# Altium footprint library Led.PcbLib: 80 footprints (part 1 of 5)
Each footprint in its own frame and in the unit in brackets; x right, y up, seen from the top. Pads: shape width x height; smd on the part's side, far side on the other; paste and mask are expansions set on the pad; w line width, h text height; cw(c..) or ccw(c..) is an arc to the next point about the centre after c.
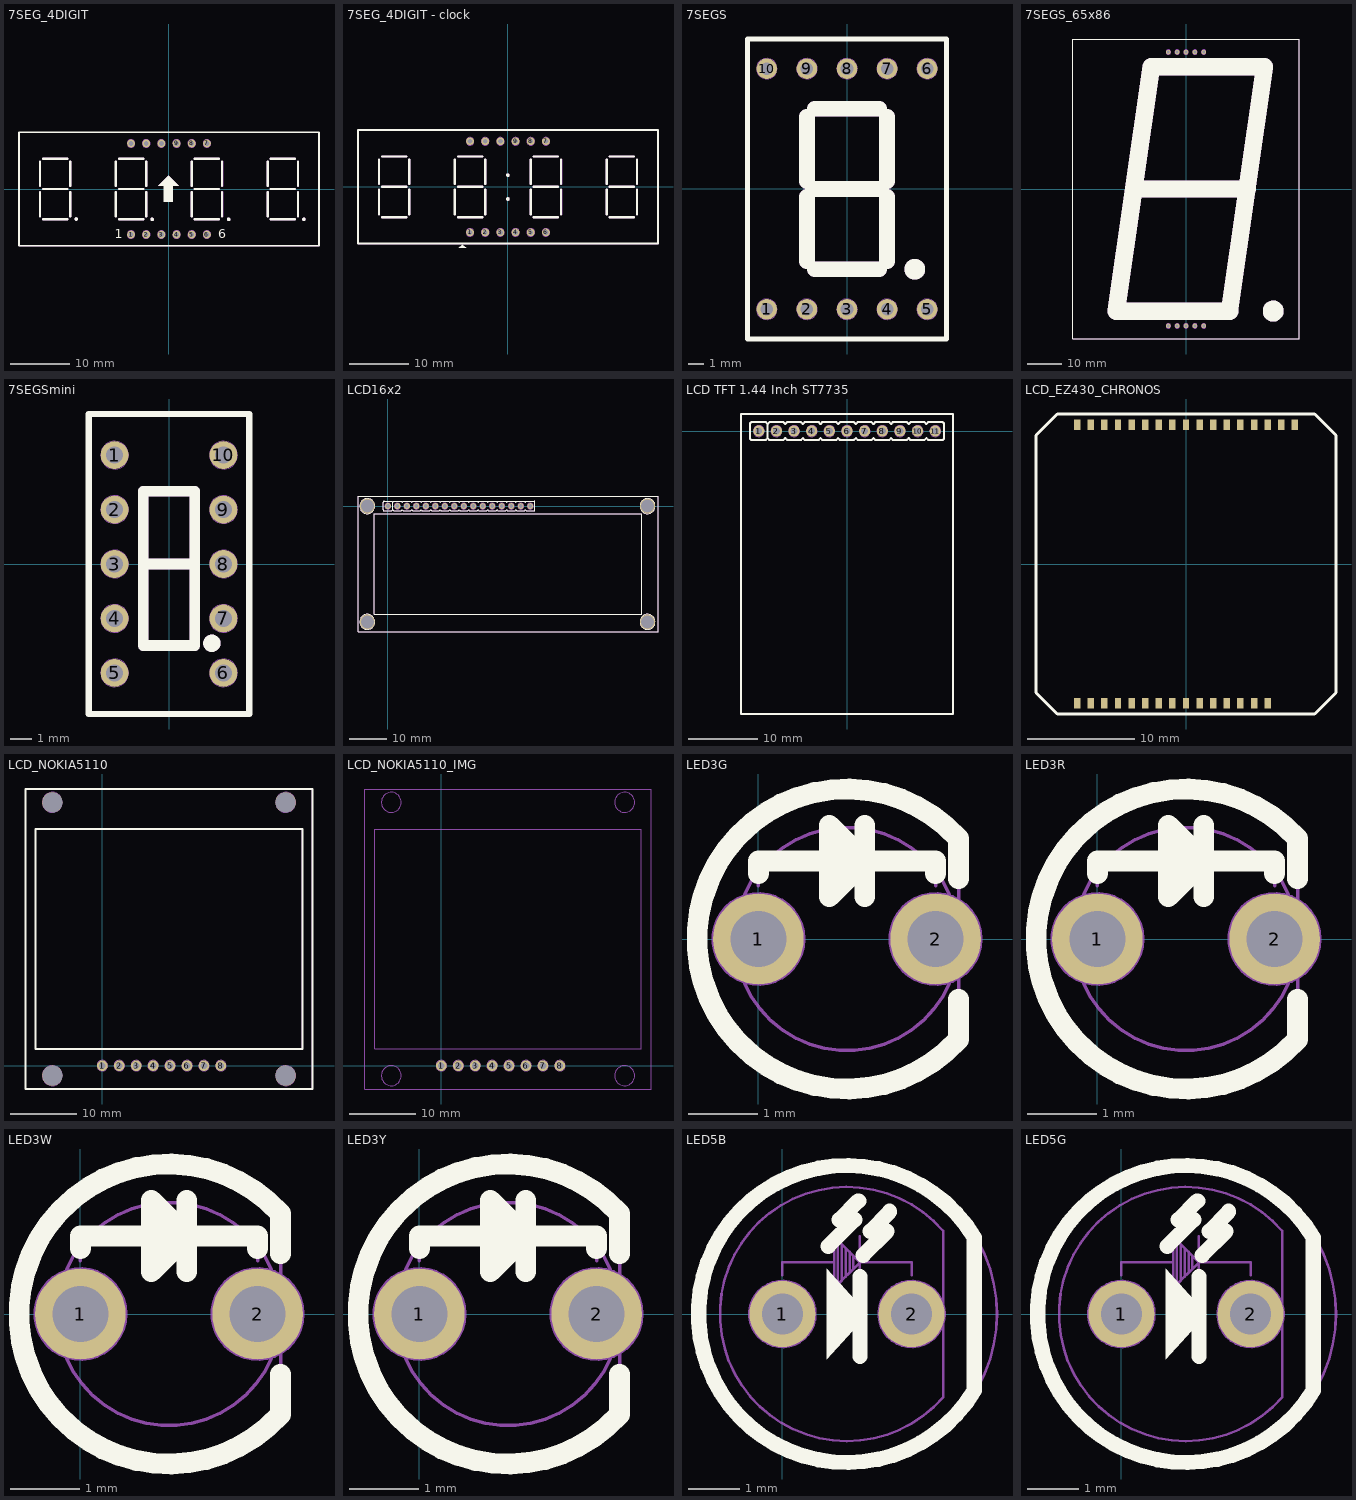
[diagram p0: the footprints below, top view; thin cyan lines are the x and y axes]

## 7SEG_4DIGIT [mm] "DIP 12 Leads; Body 50.2 x 19 mm; Pitch 2.54mm"
height 8
pads (12):
  round 1.3 hole 0.8: 1(-6.35,-7.62) 2(-3.81,-7.62) 3(-1.27,-7.62) 4(1.27,-7.62) 5(3.81,-7.62) 6(6.35,-7.62) 7(6.35,7.62) 8(3.81,7.62) 9(1.27,7.62) 10(-1.27,7.62) 11(-3.81,7.62) 12(-6.35,7.62)
Top Overlay:
  drawing of 153 lines, arcs and shapes, not listed
  text "6" at 8.255,-8.28 h1.52
  text "1" at -9.093,-8.23 h1.52
Mechanical 1:
  drawing of 165 lines, arcs and shapes, not listed
  text "6" at 8.26,-8.28 h1.2
  text "1" at -9.088,-8.229 h1.2
  text "7" at 7.874,7.061 h1.2
  text "12" at -9.627,6.985 h1.2
3D body "SOCKET6.stp": height 7.02, standoff -2.98, extent -7.62,6.35 7.62,8.89
3D body "SOCKET6.stp": height 7.02, standoff -2.98, extent -7.62,-8.763 7.62,-6.223
3D body "User Library-C-564 (7 segment 4 digit LED display).step": height 8, standoff -6.2, extent -25.2,-9.5 25.2,9.5

## 7SEG_4DIGIT - clock [mm] "DIP 12 Leads; Body 50.4 x 19 mm; Pitch 2.54mm TOF-5462BS-1N"
height 8
pads (12):
  round 1.3 hole 0.8: 1(-6.35,-7.62) 2(-3.81,-7.62) 3(-1.27,-7.62) 4(1.27,-7.62) 5(3.81,-7.62) 6(6.35,-7.62) 7(6.35,7.62) 8(3.81,7.62) 9(1.27,7.62) 10(-1.27,7.62) 11(-3.81,7.62) 12(-6.35,7.62)
Top Overlay:
  drawing of 151 lines, arcs and shapes, not listed
Mechanical 1:
  drawing of 162 lines, arcs and shapes, not listed
  text "6" at 7.5,-8 h1.2
  text "1" at -8,-8 h1.2
  text "7" at 7.5,7 h1.2
  text "12" at -9.5,7 h1.2
3D body "end-el-san Co Ltd-King Bright CA56-12.step": height 8, standoff -4.1, extent -25.15,-9.5 25.15,9.5

## 7SEGS [mm] "DIP 10 Leads; Body 12 x 19 mm; Pitch 2.54mm"
height 9
pads (10):
  round 1.3 hole 0.8: 1(-5.08,-7.62) 2(-2.54,-7.62) 3(0,-7.62) 4(2.54,-7.62) 5(5.08,-7.62) 6(5.08,7.62) 7(2.54,7.62) 8(0,7.62) 9(-2.54,7.62) 10(-5.08,7.62)
Top Overlay:
  circle w1: c4.293,-5.08 r0.152
  lines w0.3: -6.3,-9.5 6.3,-9.5 6.3,9.5 -6.3,9.5 -6.3,-9.5
  lines w0.381: -2.54,-4.572 -2.54,-0.508 ; -2.54,-4.572 -2.54,-0.508 ; -2.54,-4.572 -2.54,-0.508 ; -2.54,-4.572 -2.54,-0.508 ; -2.54,0.508 -2.54,4.572 ; -2.54,0.508 -2.54,4.572 ; -2.54,0.508 -2.54,4.572 ; -2.54,0.508 -2.54,4.572 ; -2.032,0 2.032,0 ; -2.032,0 2.032,0 ; -2.032,0 2.032,0 ; -2.032,0 2.032,0 ; 2.54,-4.572 2.54,-0.508 ; 2.54,-4.572 2.54,-0.508 ; 2.54,-4.572 2.54,-0.508 ; 2.54,-4.572 2.54,-0.508 ; 2.54,-4.572 2.54,-0.508 ; 2.54,-4.572 2.54,-0.508 ; 2.54,0.508 2.54,4.572 ; 2.54,0.508 2.54,4.572 ; 2.54,0.508 2.54,4.572 ; 2.54,0.508 2.54,4.572 ; -2.032,-5.08 2.032,-5.08 -2.032,-5.08 ; -2.032,5.08 2.032,5.08 -2.032,5.08
  lines w1: -2.54,-4.572 -2.54,-0.508 ; -2.54,-4.572 -2.54,-0.508 ; -2.54,-4.572 -2.54,-0.508 ; -2.54,-4.572 -2.54,-0.508 ; -2.54,0.508 -2.54,4.572 ; -2.54,0.508 -2.54,4.572 ; -2.54,0.508 -2.54,4.572 ; -2.54,0.508 -2.54,4.572 ; -2.032,0 2.032,0 ; -2.032,0 2.032,0 ; -2.032,0 2.032,0 ; -2.032,0 2.032,0 ; 2.54,0.508 2.54,4.572 ; 2.54,0.508 2.54,4.572 ; 2.54,0.508 2.54,4.572 ; 2.54,0.508 2.54,4.572 ; -2.032,-5.08 2.032,-5.08 -2.032,-5.08 ; -2.032,5.08 2.032,5.08 -2.032,5.08 ; 2.54,-4.572 2.54,-0.508 2.54,-4.572
Mechanical 1:
  circle w0.05: c-5.08,-7.62 r0.65
  circle w0.05: c-2.54,-7.62 r0.65
  circle w0.05: c0,-7.62 r0.65
  circle w0.05: c2.54,-7.62 r0.65
  circle w0.05: c5.08,-7.62 r0.65
  circle w0.05: c5.08,7.62 r0.65
  circle w0.05: c2.54,7.62 r0.65
  circle w0.05: c0,7.62 r0.65
  circle w0.05: c-2.54,7.62 r0.65
  circle w0.05: c-5.08,7.62 r0.65
  circle w1: c4.292,-5.08 r0.152
  lines w0.05: -6.3,-9.5 -6.3,9.5 6.3,9.5 6.3,-9.5 -6.3,-9.5
  lines w0.381: -2.54,-4.572 -2.54,-0.508 ; -2.54,-4.572 -2.54,-0.508 ; -2.54,-4.572 -2.54,-0.508 ; -2.54,-4.572 -2.54,-0.508 ; -2.54,0.508 -2.54,4.572 ; -2.54,0.508 -2.54,4.572 ; -2.54,0.508 -2.54,4.572 ; -2.54,0.508 -2.54,4.572 ; -2.032,0 2.032,0 ; -2.032,0 2.032,0 ; -2.032,0 2.032,0 ; -2.032,0 2.032,0 ; 2.54,-4.572 2.54,-0.508 ; 2.54,-4.572 2.54,-0.508 ; 2.54,-4.572 2.54,-0.508 ; 2.54,-4.572 2.54,-0.508 ; 2.54,-4.572 2.54,-0.508 ; 2.54,-4.572 2.54,-0.508 ; 2.54,0.508 2.54,4.572 ; 2.54,0.508 2.54,4.572 ; 2.54,0.508 2.54,4.572 ; 2.54,0.508 2.54,4.572 ; -2.032,-5.08 2.032,-5.08 -2.032,-5.08 ; -2.032,5.08 2.032,5.08 -2.032,5.08
  lines w1: -2.54,-4.572 -2.54,-0.508 ; -2.54,-4.572 -2.54,-0.508 ; -2.54,-4.572 -2.54,-0.508 ; -2.54,-4.572 -2.54,-0.508 ; -2.54,0.508 -2.54,4.572 ; -2.54,0.508 -2.54,4.572 ; -2.54,0.508 -2.54,4.572 ; -2.54,0.508 -2.54,4.572 ; -2.032,0 2.032,0 ; -2.032,0 2.032,0 ; -2.032,0 2.032,0 ; -2.032,0 2.032,0 ; 2.54,0.508 2.54,4.572 ; 2.54,0.508 2.54,4.572 ; 2.54,0.508 2.54,4.572 ; 2.54,0.508 2.54,4.572 ; -2.032,-5.08 2.032,-5.08 -2.032,-5.08 ; -2.032,5.08 2.032,5.08 -2.032,5.08 ; 2.54,-4.572 2.54,-0.508 2.54,-4.572
  text "10" at -5.74,5.7 h1
  text "6" at 4.93,5.77 h1
  text "5" at 4.77,-6.77 h1
  text "1" at -5.29,-6.67 h1
3D body "SW3dPS-Disp_SA56-11.STEP": height 8.03, standoff -3.97, extent -6.35,-9.525 6.35,9.525

## 7SEGS_65x86 [mm] "DIP 10 Leads; Body 65x86x12 mm; Pitch 2.54mm"
height 12
pads (10):
  round 1.3 hole 0.8: 1(-5.08,-39.25) 2(-2.54,-39.25) 3(0,-39.25) 4(2.54,-39.25) 5(5.08,-39.25) 6(5.08,39.25) 7(2.54,39.25) 8(0,39.25) 9(-2.54,39.25) 10(-5.08,39.25)
Top Overlay:
  circle w3: c25,-35 r1.5
  lines w0.3: -32.5,-43 -32.5,43 32.5,43 32.5,-43 -32.5,-43
  lines w5: -15,0 -20,-35 12.5,-35 17.5,0 ; -15,0 -10,35 22.5,35 17.5,0 ; -15,0 17.5,0
Mechanical 1:
  circle w3: c25,-35 r1.5
  circle w0.05: c-5.08,39.25 r0.65
  circle w0.05: c-2.54,39.25 r0.65
  circle w0.05: c0,39.25 r0.65
  circle w0.05: c2.54,39.25 r0.65
  circle w0.05: c5.08,39.25 r0.65
  circle w0.05: c5.08,-39.25 r0.65
  circle w0.05: c2.54,-39.25 r0.65
  circle w0.05: c0,-39.25 r0.65
  circle w0.05: c-2.54,-39.25 r0.65
  circle w0.05: c-5.08,-39.25 r0.65
  lines w0.05: -32.5,-43 32.5,-43 ; -32.5,-43 -32.5,43 ; -32.5,-43 -32.5,43 ; -32.5,-43 32.5,-43 ; -32.5,43 32.5,43 ; -32.5,43 32.5,43 ; 32.5,-43 32.5,43 ; 32.5,-43 32.5,43
  lines w5: -15,0 -10,35 22.5,35 17.5,0 ; -15,0 -20,-35 12.5,-35 17.5,0 ; -15,0 17.5,0
  text "1" at -5.4,-42.4 h2
  text "5" at 4.5,-42.4 h2
  text "6" at 4.4,40.4 h2
  text "10" at -6.5,40.5 h2

## 7SEGSmini [mm] "body 7.5x14mm pitch 2.54"
height 8.5
pads (10):
  round 1.3 hole 0.8: 1(-2.54,5.08) 2(-2.54,2.54) 3(-2.54,0) 4(-2.54,-2.54) 5(-2.54,-5.08) 6(2.54,-5.08) 7(2.54,-2.54) 8(2.54,0) 9(2.54,2.54) 10(2.54,5.08)
Top Overlay:
  circle w0.5: c2,-3.7 r0.152
  lines w0.3: -3.75,-7 -3.75,7 3.75,7 3.75,-7 -3.75,-7
  lines w0.5: -1.2,0 1.2,0 ; -1.2,-3.8 1.2,-3.8 1.2,3.4 -1.2,3.4 -1.2,-3.8
Mechanical 1:
  circle w0.05: c2.54,5.08 r0.65
  circle w0.05: c2.54,2.54 r0.65
  circle w0.05: c2.54,0 r0.65
  circle w0.05: c2.54,-2.54 r0.65
  circle w0.05: c2.54,-5.08 r0.65
  circle w0.05: c-2.54,-5.08 r0.65
  circle w0.05: c-2.54,-2.54 r0.65
  circle w0.05: c-2.54,0 r0.65
  circle w0.05: c-2.54,2.54 r0.65
  circle w0.05: c-2.54,5.08 r0.65
  circle w0.5: c2,-3.7 r0.152
  lines w0.05: -3.75,-7 -3.75,7 3.75,7 3.75,-7 -3.75,-7
  lines w0.5: -1.2,0 1.2,0 ; -1.2,-3.8 -1.2,3.4 1.2,3.4 1.2,-3.8 -1.2,-3.8
  text "6" at 2.3,-5.4 h0.7
  text "5" at -2.8,-5.4 h0.7
  text "1" at -2.7,4.7 h0.7
  text "10" at 2,4.7 h0.7

## LCD16x2 [mm] "LCD 16x2, 36.3mmx80.3mm"
height 13
pads (20):
  round 1.6 hole 1 mask+0.1: 1(0,0) 2(2.54,0) 3(5.08,0) 4(7.62,0) 5(10.16,0) 6(12.7,0) 7(15.24,0) 8(17.78,0) 9(20.32,0) 10(22.86,0) 11(25.4,0) 12(27.94,0) 13(30.48,0) 14(33.02,0) 15(35.56,0) 16(38.1,0)
  round 4 hole 3.5: Hole_0(-5.5,0) Hole_1(-5.5,-31) Hole_3(69.5,-31) Hole_4(69.5,0)
Top Overlay:
  drawing of 154 lines, arcs and shapes, not listed
Mechanical 2:
  drawing of 190 lines, arcs and shapes, not listed
  text "16" at 37.55,-0.4 h1.2
  text "1" at -0.15,-0.4 h1.2
3D body "LCD module 16 X 2 backlight.STEP": height 13.52, standoff 0.31, extent -8.25,-33.75 72.25,2.75
3D body "Header 1x16.STEP": height 4.5, standoff -7.1, extent -1.27,-1.27 39.37,1.27

## LCD TFT 1.44 Inch ST7735 [mm] "Màn hình LCD TFT 1.44 inch ST7735 giao ti?p SPI"
pads (11):
  round 1.6 hole 1 mask+0.1: 1(-12.7,0) 2(-10.16,0) 3(-7.62,0) 4(-5.08,0) 5(-2.54,0) 6(0,0) 7(2.54,0) 8(5.08,0) 9(7.62,0) 10(10.16,0) 11(12.7,0)
Top Overlay:
  lines w0.3: -11.684,-1.28 -11.684,-1.27 ; -11.684,1.27 -11.43,1.016 ; -11.684,1.28 -13.73,1.28 ccw(c-13.71,1.02) -13.97,1 -13.97,-1 ccw(c-13.71,-1.02) -13.73,-1.28 -11.694,-1.28 -11.684,-1.27 ; -11.176,1.27 -11.43,1.016 ; -11.176,1.28 -9.144,1.28 -9.144,1.27 -8.89,1.016 -8.636,1.27 ; -8.65,-1.28 -6.614,-1.28 -6.604,-1.27 ; -8.65,1.28 -6.604,1.28 ; -8.636,-1.27 -8.89,-1.016 -9.144,-1.27 -9.144,-1.28 -11.176,-1.28 -11.43,-1.026 -11.43,-1.016 ; -6.604,-1.28 -6.604,-1.27 ; -6.604,1.27 -6.35,1.016 -6.096,1.27 ; -6.096,1.28 -4.064,1.28 -4.064,1.27 -3.81,1.016 -3.556,1.27 ; -3.57,-1.28 -1.534,-1.28 -1.524,-1.27 ; -3.57,1.28 -1.524,1.28 ; -3.556,-1.27 -3.81,-1.016 -4.064,-1.27 -4.064,-1.28 -6.096,-1.28 -6.35,-1.026 -6.35,-1.016 -6.604,-1.27 ; -1.524,-1.28 -1.524,-1.27 ; -1.524,1.27 -1.27,1.016 -1.016,1.27 ; -1.016,1.28 1.016,1.28 1.016,1.27 1.27,1.016 1.524,1.27 ; 1.51,-1.28 3.546,-1.28 3.556,-1.27 ; 1.51,1.28 3.556,1.28 ; 1.524,-1.27 1.27,-1.016 1.016,-1.27 1.016,-1.28 -1.016,-1.28 -1.27,-1.026 -1.27,-1.016 -1.524,-1.27 ; 3.556,-1.28 3.556,-1.27 ; 3.556,1.27 3.81,1.016 4.064,1.27 ; 4.064,1.28 6.096,1.28 6.096,1.27 6.35,1.016 6.604,1.27 ; 6.59,-1.28 8.626,-1.28 8.636,-1.27 ; 6.59,1.28 8.636,1.28 ; 6.604,-1.27 6.35,-1.016 6.096,-1.27 6.096,-1.28 4.064,-1.28 3.81,-1.026 3.81,-1.016 3.556,-1.27 ; 8.636,-1.28 8.636,-1.27 ; 8.636,1.27 8.89,1.016 9.144,1.27 ; 9.144,1.28 11.176,1.28 11.176,1.27 11.43,1.016 11.684,1.27 ; 11.67,-1.28 13.706,-1.28 ; 11.67,1.28 13.716,1.28 ; 11.684,-1.27 11.43,-1.016 11.176,-1.27 11.176,-1.28 9.144,-1.28 8.89,-1.026 8.89,-1.016 8.636,-1.27 ; 13.73,-1.28 ccw(c13.71,-1.02) 13.97,-1 13.97,1 ccw(c13.71,1.02) 13.73,1.28 ; -11.684,-1.27 -11.43,-1.016 ; -11.43,-1.016 -11.43,1.016 ; -15.24,-40.72 15.24,-40.72 15.24,2.46 -15.24,2.46 -15.24,-40.72
Mechanical 2:
  circle w0.05: c5.08,0 r0.8
  circle w0.05: c12.7,0 r0.8
  circle w0.05: c-2.54,0 r0.8
  circle w0.05: c0,0 r0.8
  circle w0.05: c-10.16,0 r0.8
  circle w0.05: c-5.08,0 r0.8
  circle w0.05: c-12.7,0 r0.8
  circle w0.05: c-12.7,0 r0.8
  circle w0.05: c2.54,0 r0.8
  circle w0.05: c-7.62,0 r0.8
  circle w0.05: c7.62,0 r0.8
  circle w0.05: c10.16,0 r0.8
  lines w0.05: -11.684,-1.28 -11.684,-1.27 ; -11.684,1.27 -11.43,1.016 ; -11.684,1.28 -13.73,1.28 ccw(c-13.71,1.02) -13.97,1 -13.97,-1 ccw(c-13.71,-1.02) -13.73,-1.28 -11.694,-1.28 -11.684,-1.27 ; -11.176,1.27 -11.43,1.016 ; -11.176,1.28 -9.144,1.28 -9.144,1.27 -8.89,1.016 -8.636,1.27 ; -8.65,-1.28 -6.614,-1.28 -6.604,-1.27 ; -8.65,1.28 -6.604,1.28 ; -8.636,-1.27 -8.89,-1.016 -9.144,-1.27 -9.144,-1.28 -11.176,-1.28 -11.43,-1.026 -11.43,-1.016 ; -6.604,-1.28 -6.604,-1.27 ; -6.604,1.27 -6.35,1.016 -6.096,1.27 ; -6.096,1.28 -4.064,1.28 -4.064,1.27 -3.81,1.016 -3.556,1.27 ; -3.57,-1.28 -1.534,-1.28 -1.524,-1.27 ; -3.57,1.28 -1.524,1.28 ; -3.556,-1.27 -3.81,-1.016 -4.064,-1.27 -4.064,-1.28 -6.096,-1.28 -6.35,-1.026 -6.35,-1.016 -6.604,-1.27 ; -1.524,-1.28 -1.524,-1.27 ; -1.524,1.27 -1.27,1.016 -1.016,1.27 ; -1.016,1.28 1.016,1.28 1.016,1.27 1.27,1.016 1.524,1.27 ; 1.51,-1.28 3.546,-1.28 3.556,-1.27 ; 1.51,1.28 3.556,1.28 ; 1.524,-1.27 1.27,-1.016 1.016,-1.27 1.016,-1.28 -1.016,-1.28 -1.27,-1.026 -1.27,-1.016 -1.524,-1.27 ; 3.556,-1.28 3.556,-1.27 ; 3.556,1.27 3.81,1.016 4.064,1.27 ; 4.064,1.28 6.096,1.28 ; 6.096,-1.28 4.064,-1.28 3.81,-1.026 3.81,-1.016 3.556,-1.27 ; 6.096,-1.27 6.35,-1.016 6.604,-1.27 ; 6.096,1.27 6.35,1.016 6.604,1.27 ; 6.59,-1.28 8.626,-1.28 8.636,-1.27 ; 6.59,1.28 8.636,1.28 ; 8.636,-1.28 8.636,-1.27 ; 8.636,1.27 8.89,1.016 9.144,1.27 ; 9.144,1.28 11.176,1.28 11.176,1.27 11.43,1.016 11.684,1.27 ; 11.67,-1.28 13.706,-1.28 ; 11.67,1.28 13.716,1.28 ; 11.684,-1.27 11.43,-1.016 11.176,-1.27 11.176,-1.28 9.144,-1.28 8.89,-1.026 8.89,-1.016 8.636,-1.27 ; 13.73,-1.28 ccw(c13.71,-1.02) 13.97,-1 13.97,1 ccw(c13.71,1.02) 13.73,1.28 ; -11.684,-1.27 -11.43,-1.016 ; -11.43,-1.016 -11.43,1.016 ; -15.24,-40.72 -15.24,2.46 15.24,2.46 15.24,-40.72 -15.24,-40.72
  text "1" at -12.84,-0.4 h1.2
  text "11" at 12.2,-0.4 h1.2
3D body "SW3dPS-0_1inch pin strip.STEP": height 4.04, standoff -7.56, extent -13.97,-1.27 13.97,1.27
3D body "1.8in TFT (Without Glass)- Reverse Mount.stp": height 5.54, standoff 1.2, extent -17.335,-42.553 17.336,4.317

## LCD_EZ430_CHRONOS [mm]
pads (32):
  rrect5% 0.6x1 smd mask+0.1: 1(-10.16,-13) 2(-8.89,-13) 3(-7.62,-13) 4(-6.35,-13) 5(-5.08,-13) 6(-3.81,-13) 7(-2.54,-13) 8(-1.27,-13) 9(0,-13) 10(1.27,-13) 11(2.54,-13) 12(3.81,-13) 13(5.08,-13) 14(6.35,-13) 15(7.62,-13) 16(10.16,13) 17(8.89,13) 18(7.62,13) 19(6.35,13) 20(5.08,13) 21(3.81,13) 22(2.54,13) 23(1.27,13) 24(0,13) 25(-1.27,13) 26(-2.54,13) 27(-3.81,13) 28(-5.08,13) 29(-6.35,13) 30(-7.62,13) 31(-8.89,13) 32(-10.16,13)
Top Overlay:
  lines w0.3: -14,-12 -12,-14 12,-14 14,-12 14,12 12,14 -12,14 -14,12 -14,-12
Mechanical 1:
  lines w0.05: -14,-12 -12,-14 12,-14 14,-12 14,12 12,14 -12,14 -14,12 -14,-12
  text "1" at -12,-12 h1
  text "15" at 8,-12 h1
  text "16" at 11,12 h1
  text "32" at -12,12 h1

## LCD_NOKIA5110 [mm] "LCD Nokia 5110, 43mmx45mm"
height 8
pads (12):
  round 1.6 hole 1 mask+0.1: 1(0,0) 2(2.54,0) 3(5.08,0) 4(7.62,0) 5(10.16,0) 6(12.7,0) 7(15.24,0) 8(17.78,0)
  round 3 hole 3 mask+1: hole_1(27.5,39.5) hole_2(27.5,-1.5) hole_3(-7.5,-1.5) hole_3(-7.5,39.5)
Top Overlay:
  lines w0.3: -11.5,-3.5 -11.5,41.5 31.5,41.5 31.5,-3.5 -11.5,-3.5 ; -10,2.5 30,2.5 30,35.5 -10,35.5 -10,2.5
Mechanical 1:
  circle w0.05: c0,0 r0.8
  circle w0.05: c2.54,0 r0.8
  circle w0.05: c5.08,0 r0.8
  circle w0.05: c7.62,0 r0.8
  circle w0.05: c10.16,0 r0.8
  circle w0.05: c12.7,0 r0.8
  circle w0.05: c15.24,0 r0.8
  circle w0.05: c17.78,0 r0.8
  circle w0.05: c-7.5,-1.5 r1.5
  circle w0.05: c27.5,-1.5 r1.5
  circle w0.05: c27.5,39.5 r1.5
  circle w0.05: c-7.5,39.5 r1.5
  lines w0.05: -11.5,-3.5 -11.5,41.5 31.5,41.5 31.5,-3.5 -11.5,-3.5 ; -10,2.5 30,2.5 30,35.5 -10,35.5 -10,2.5
  text "8" at 19,-0.7 h1.5
  text "1" at -1.6,-0.7 h1.5
  text "RST" at 0.9,1.2 h1.5
  text "CE" at 3.3,1.2 h1.5
  text "DC" at 5.8,1.2 h1.5
  text "DIN" at 8.4,1.2 h1.5
  text "CLK" at 11,1.2 h1.5
  text "VCC" at 13.5,1.2 h1.5
  text "BL" at 16,1.2 h1.5
  text "GND" at 18.6,1.2 h1.5

## LCD_NOKIA5110_IMG [mm] "LCD Nokia 5110, 43mmx45mm"
height 8
pads (8):
  round 1.6 hole 1 mask+0.1: 1(0,0) 2(2.54,0) 3(5.08,0) 4(7.62,0) 5(10.16,0) 6(12.7,0) 7(15.24,0) 8(17.78,0)
Mechanical 1:
  circle w0.05: c-7.5,39.5 r1.5
  circle w0.05: c27.5,39.5 r1.5
  circle w0.05: c27.5,-1.5 r1.5
  circle w0.05: c-7.5,-1.5 r1.5
  circle w0.05: c17.78,0 r0.8
  circle w0.05: c15.24,0 r0.8
  circle w0.05: c12.7,0 r0.8
  circle w0.05: c10.16,0 r0.8
  circle w0.05: c7.62,0 r0.8
  circle w0.05: c5.08,0 r0.8
  circle w0.05: c2.54,0 r0.8
  circle w0.05: c0,0 r0.8
  lines w0.05: -11.5,-3.5 31.5,-3.5 31.5,41.5 -11.5,41.5 -11.5,-3.5 ; -10,2.5 -10,35.5 30,35.5 30,2.5 -10,2.5
  text "GND" at 18.6,1.2 h1.5
  text "BL" at 16,1.2 h1.5
  text "VCC" at 13.5,1.2 h1.5
  text "CLK" at 11,1.2 h1.5
  text "DIN" at 8.4,1.2 h1.5
  text "DC" at 5.8,1.2 h1.5
  text "CE" at 3.3,1.2 h1.5
  text "RST" at 0.9,1.2 h1.5
  text "1" at -1.6,-0.7 h1.5
  text "8" at 19,-0.7 h1.5

## LED3G [mm] "LED 3mm_GREEN"
height 5.5
pads (2):
  round 1.3 hole 0.8: 1(0,0) 2(2.54,0)
Top Overlay:
  lines w0.3: 0,0.94 0,1.116 1.016,1.116 ; 1.092,1.548 1.092,0.684 ; 1.168,1.472 1.168,0.76 1.092,0.684 ; 1.245,1.395 1.245,0.837 1.321,0.913 ; 1.321,1.319 1.321,0.913 ; 1.397,1.243 1.397,0.989 1.321,0.913 ; 1.524,0.608 1.524,1.624 ; 2.54,0.94 2.54,1.116 2.286,1.116 1.524,1.116 ; 2.869,-1.437 cw(c1.27,0) 2.869,1.437 ; 2.87,-1.438 2.87,-0.864 ; 2.87,0.864 2.87,1.438 ; 1.016,0.608 1.016,1.624 1.524,1.116 ; 1.016,0.608 1.524,1.116 ; 1.016,0.608 1.092,0.684
Mechanical 1:
  circle w0.05: c1.27,0 r1.6
  circle w0.05: c0,0 r0.65
  circle w0.05: c2.54,0 r0.65
  lines w0.05: 0,0.762 0,1.016 1.016,1.016 ; 1.092,1.448 1.092,0.584 ; 1.168,1.372 1.168,0.66 1.092,0.584 ; 1.245,1.295 1.245,0.737 1.321,0.813 ; 1.321,1.219 1.321,0.813 ; 1.397,1.143 1.397,0.889 1.321,0.813 ; 1.524,0.508 1.524,1.524 ; 2.54,0.762 2.54,1.016 2.286,1.016 1.524,1.016 ; 2.868,-1.438 cw(c1.27,0) 2.868,1.438 ; 2.87,-1.438 2.87,1.438 ; 1.016,0.508 1.092,0.584 ; 1.016,0.508 1.524,1.016 ; 1.016,0.508 1.016,1.524 1.524,1.016
3D body "User Library-LED-D3G.step": height 4.6, standoff -6.5, extent -0.73,-2 2.937,2

## LED3R [mm] "LED 3mm_RED"
height 5.5
pads (2):
  round 1.3 hole 0.8: 1(0,0) 2(2.54,0)
Top Overlay:
  lines w0.3: 0,0.94 0,1.116 1.016,1.116 ; 1.092,1.548 1.092,0.684 ; 1.168,1.472 1.168,0.76 1.092,0.684 ; 1.245,1.395 1.245,0.837 1.321,0.913 ; 1.321,1.319 1.321,0.913 ; 1.397,1.243 1.397,0.989 1.321,0.913 ; 1.524,0.608 1.524,1.624 ; 2.54,0.94 2.54,1.116 2.286,1.116 1.524,1.116 ; 2.869,-1.437 cw(c1.27,0) 2.869,1.437 ; 2.87,-1.438 2.87,-0.864 ; 2.87,0.864 2.87,1.438 ; 1.016,0.608 1.092,0.684 ; 1.016,0.608 1.524,1.116 ; 1.016,0.608 1.016,1.624 1.524,1.116
Mechanical 1:
  circle w0.05: c2.54,0 r0.65
  circle w0.05: c0,0 r0.65
  circle w0.05: c1.27,0 r1.6
  lines w0.05: 0,0.762 0,1.016 1.016,1.016 ; 1.092,1.448 1.092,0.584 ; 1.168,1.372 1.168,0.66 1.092,0.584 ; 1.245,1.295 1.245,0.737 1.321,0.813 ; 1.321,1.219 1.321,0.813 ; 1.397,1.143 1.397,0.889 1.321,0.813 ; 1.524,0.508 1.524,1.524 ; 2.54,0.762 2.54,1.016 2.286,1.016 1.524,1.016 ; 2.868,-1.438 cw(c1.27,0) 2.868,1.438 ; 2.87,-1.438 2.87,1.438 ; 1.016,0.508 1.016,1.524 1.524,1.016 ; 1.016,0.508 1.524,1.016 ; 1.016,0.508 1.092,0.584
3D body "User Library-LED-D3R.step": height 4.6, standoff -6.5, extent -0.73,-2 2.937,2

## LED3W [mm] "LED 3mm_WHITE"
height 5.5
pads (2):
  round 1.3 hole 0.8: 1(0,0) 2(2.54,0)
Top Overlay:
  lines w0.3: 0,0.94 0,1.116 1.016,1.116 ; 1.092,1.548 1.092,0.684 ; 1.168,1.472 1.168,0.76 1.092,0.684 ; 1.245,1.395 1.245,0.837 1.321,0.913 ; 1.321,1.319 1.321,0.913 ; 1.397,1.243 1.397,0.989 1.321,0.913 ; 1.524,0.608 1.524,1.624 ; 2.54,0.94 2.54,1.116 2.286,1.116 1.524,1.116 ; 2.869,-1.437 cw(c1.27,0) 2.869,1.437 ; 2.87,-1.438 2.87,-0.864 ; 2.87,0.864 2.87,1.438 ; 1.016,0.608 1.092,0.684 ; 1.016,0.608 1.524,1.116 ; 1.016,0.608 1.016,1.624 1.524,1.116
Mechanical 1:
  circle w0.05: c2.54,0 r0.65
  circle w0.05: c0,0 r0.65
  circle w0.05: c1.27,0 r1.6
  lines w0.05: 0,0.762 0,1.016 1.016,1.016 ; 1.092,1.448 1.092,0.584 ; 1.168,1.372 1.168,0.66 1.092,0.584 ; 1.245,1.295 1.245,0.737 1.321,0.813 ; 1.321,1.219 1.321,0.813 ; 1.397,1.143 1.397,0.889 1.321,0.813 ; 1.524,0.508 1.524,1.524 ; 2.54,0.762 2.54,1.016 2.286,1.016 1.524,1.016 ; 2.868,-1.438 cw(c1.27,0) 2.868,1.438 ; 2.87,-1.438 2.87,1.438 ; 1.016,0.508 1.016,1.524 1.524,1.016 ; 1.016,0.508 1.524,1.016 ; 1.016,0.508 1.092,0.584
3D body "CircuitWorks-LED DIP 3MM.step": height 6.5, standoff -2, extent -0.63,-1.9 2.87,1.9

## LED3Y [mm] "LED 3mm_Yellow"
height 5.5
pads (2):
  round 1.3 hole 0.8: 1(0,0) 2(2.54,0)
Top Overlay:
  lines w0.3: 0,0.94 0,1.116 1.016,1.116 ; 1.092,1.548 1.092,0.684 ; 1.168,1.472 1.168,0.76 1.092,0.684 ; 1.245,1.395 1.245,0.837 1.321,0.913 ; 1.321,1.319 1.321,0.913 ; 1.397,1.243 1.397,0.989 1.321,0.913 ; 1.524,0.608 1.524,1.624 ; 2.54,0.94 2.54,1.116 2.286,1.116 1.524,1.116 ; 2.869,-1.437 cw(c1.27,0) 2.869,1.437 ; 2.87,-1.438 2.87,-0.864 ; 2.87,0.864 2.87,1.438 ; 1.016,0.608 1.092,0.684 ; 1.016,0.608 1.524,1.116 ; 1.016,0.608 1.016,1.624 1.524,1.116
Mechanical 1:
  circle w0.05: c2.54,0 r0.65
  circle w0.05: c0,0 r0.65
  circle w0.05: c1.27,0 r1.6
  lines w0.05: 0,0.762 0,1.016 1.016,1.016 ; 1.092,1.448 1.092,0.584 ; 1.168,1.372 1.168,0.66 1.092,0.584 ; 1.245,1.295 1.245,0.737 1.321,0.813 ; 1.321,1.219 1.321,0.813 ; 1.397,1.143 1.397,0.889 1.321,0.813 ; 1.524,0.508 1.524,1.524 ; 2.54,0.762 2.54,1.016 2.286,1.016 1.524,1.016 ; 2.868,-1.438 cw(c1.27,0) 2.868,1.438 ; 2.87,-1.438 2.87,1.438 ; 1.016,0.508 1.016,1.524 1.524,1.016 ; 1.016,0.508 1.524,1.016 ; 1.016,0.508 1.092,0.584
3D body "User Library-LED-D3Y.step": height 4.6, standoff -6.5, extent -0.73,-2 2.937,2

## LED5B [mm] "LED, BLACK, 2 LEAD, 5mm"
height 8.6
pads (2):
  round 1.3 hole 0.8: 1(0,0) 2(2.54,0)
Top Overlay:
  region: 1.676,0 0.876,0.889 0.876,-0.889
  lines w0.3: 0.902,1.333 1.422,1.854 1.118,1.854 1.486,2.222 1.499,2.222 ; 1.524,-0.838 1.524,0.737 ; 1.587,1.156 2.057,1.626 1.727,1.626 2.108,2.007 2.108,2.019 ; 3.775,-1.503 cw(c1.27,0) 3.775,1.503 3.775,-1.503
Mechanical 1:
  circle w0.05: c1.27,0 r2.95
  circle w0.05: c0,0 r0.65
  circle w0.05: c2.54,0 r0.65
  lines w0.05: 0,0.762 0,1.016 1.016,1.016 ; 1.092,1.448 1.092,0.584 ; 1.168,1.372 1.168,0.66 1.092,0.584 ; 1.245,1.295 1.245,0.737 1.321,0.813 ; 1.321,1.219 1.321,0.813 ; 1.397,1.143 1.397,0.889 1.321,0.813 ; 1.524,0.508 1.524,1.524 ; 2.54,0.762 2.54,1.016 2.286,1.016 1.524,1.016 ; 3.159,1.637 ccw(c1.27,0) 3.167,-1.629 ; 3.162,-1.629 3.162,1.637 ; 1.016,0.508 1.092,0.584 ; 1.016,0.508 1.524,1.016 ; 1.016,0.508 1.016,1.524 1.524,1.016
3D body "PT5B.STEP": height 12.31, standoff -2.49, extent -1.702,-3.01 3.718,3.01

## LED5G [mm] "LED, GREEN, 2 LEAD, 5mm"
height 8.6
pads (2):
  round 1.3 hole 0.8: 1(0,0) 2(2.54,0)
Top Overlay:
  region: 1.676,0 0.876,0.889 0.876,-0.889
  lines w0.3: 0.902,1.333 1.422,1.854 1.118,1.854 1.486,2.222 1.499,2.222 ; 1.524,-0.838 1.524,0.737 ; 1.587,1.156 2.057,1.626 1.727,1.626 2.108,2.007 2.108,2.019 ; 3.775,-1.503 cw(c1.27,0) 3.775,1.503 3.775,-1.503
Mechanical 1:
  circle w0.05: c1.27,0 r2.95
  circle w0.05: c0,0 r0.65
  circle w0.05: c2.54,0 r0.65
  lines w0.05: 0,0.762 0,1.016 1.016,1.016 ; 1.092,1.448 1.092,0.584 ; 1.168,1.372 1.168,0.66 1.092,0.584 ; 1.245,1.295 1.245,0.737 1.321,0.813 ; 1.321,1.219 1.321,0.813 ; 1.397,1.143 1.397,0.889 1.321,0.813 ; 1.524,0.508 1.524,1.524 ; 2.54,0.762 2.54,1.016 2.286,1.016 1.524,1.016 ; 3.159,1.637 ccw(c1.27,0) 3.167,-1.629 ; 3.162,-1.629 3.162,1.637 ; 1.016,0.508 1.092,0.584 ; 1.016,0.508 1.524,1.016 ; 1.016,0.508 1.016,1.524 1.524,1.016
3D body "SW3dPS-LEDd5G.STEP": height 12.31, standoff -2.49, extent -1.71,-3.01 3.71,3.01